# EAGLE library part MTCH6102 (library pimoroni-ics)
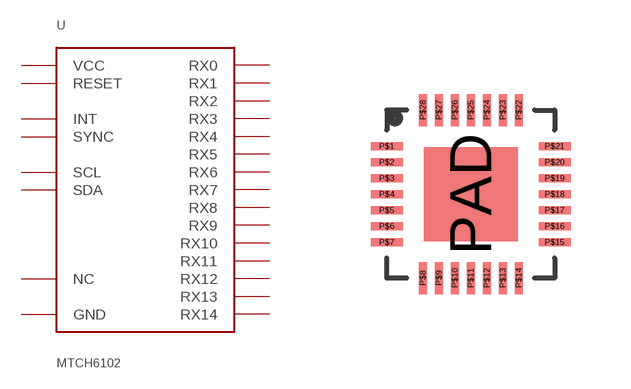
[diagram p25: symbol with the pads of UQFN-28; footprint UQFN-28]

Designator prefix -

## MTCH6102  [UQFN-28]
P$1  RX11
P$2  RX12
P$3  NC
P$4  RX13
P$5  GND
P$6  NC
P$7  NC
P$8  INT
P$9  SYNC
P$10  RX14
P$11  SCL
P$12  SDA
P$13  RX0
P$14  RX1
P$15  RX2
P$16  GND
P$17  VCC
P$18  RX3
P$19  RX4
P$20  RX5
P$21  RX6
P$22  RX7
P$23  RX8
P$24  NC
P$25  NC
P$26  RESET
P$27  RX9
P$28  RX10
PAD  NC

## Footprint UQFN-28 (pad centres in mm)
smd 0.8 x 0.2: P$1 -2.1,1.2; P$2 -2.1,0.8; P$3 -2.1,0.4; P$4 -2.1,0; P$5 -2.1,-0.4; P$6 -2.1,-0.8; P$7 -2.1,-1.2; P$15 2.1,-1.2; P$16 2.1,-0.8; P$17 2.1,-0.4; P$18 2.1,0; P$19 2.1,0.4; P$20 2.1,0.8; P$21 2.1,1.2
smd 0.2 x 0.8: P$8 -1.2,-2.1; P$9 -0.8,-2.1; P$10 -0.4,-2.1; P$11 0,-2.1; P$12 0.4,-2.1; P$13 0.8,-2.1; P$14 1.2,-2.1; P$22 1.2,2.1; P$23 0.8,2.1; P$24 0.4,2.1; P$25 0,2.1; P$26 -0.4,2.1; P$27 -0.8,2.1; P$28 -1.2,2.1
smd 2.35 x 2.35: PAD 0,0